# EAGLE library part XR-2206 (library exar)
Monolithic FUNCTION GENERATOR
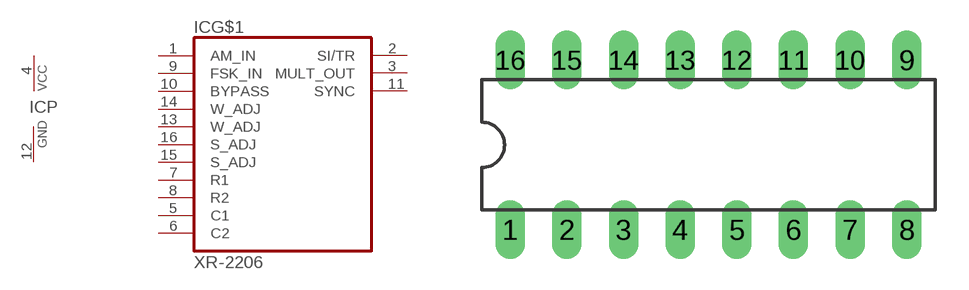
[diagram p94: symbol with the pads of DIL16; footprint DIL16]

Designator prefix IC; gates G$1=XR-2206 P=PWRN

## XR-2206 (OC_FARNELL: unknown; OC_NEWARK: unknown)  [DIL16]
1  G$1:AM_IN  in
2  G$1:SI/TR  out
3  G$1:MULT_OUT  out
4  P:VCC  pwr
5  G$1:C1  in
6  G$1:C2  in
7  G$1:R1  in
8  G$1:R2  in
9  G$1:FSK_IN  in
10  G$1:BYPASS  in
11  G$1:SYNC  out
12  P:GND  pwr
13  G$1:W_ADJ  in
14  G$1:W_ADJ  in
15  G$1:S_ADJ  in
16  G$1:S_ADJ  in

## Footprint DIL16 (pad centres in mm)
Dual In Line Package
drill 0.813 long: 1 -8.89,-3.81; 2 -6.35,-3.81; 3 -3.81,-3.81; 4 -1.27,-3.81; 5 1.27,-3.81; 6 3.81,-3.81; 7 6.35,-3.81; 8 8.89,-3.81; 9 8.89,3.81; 10 6.35,3.81; 11 3.81,3.81; 12 1.27,3.81; 13 -1.27,3.81; 14 -3.81,3.81; 15 -6.35,3.81; 16 -8.89,3.81